# EAGLE library part ELDI-BF (library traf)
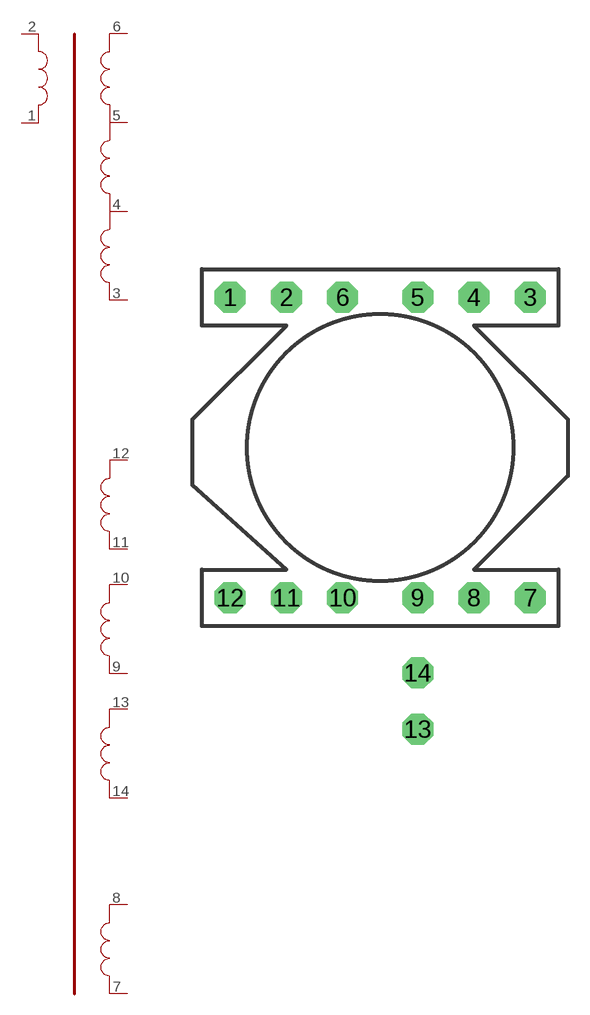
[diagram p0: symbol with the pads of ELDI-BF; footprint ELDI-BF]

Designator prefix TR

## ELDI-BF  [ELDI-BF]
1  P$1
2  P$2
3  P$6
4  P$5
5  P$4
6  P$3
7  P$12
8  P$11
9  P$10
10  P$9
11  P$8
12  P$7
13  P$13
14  P$14

## Footprint ELDI-BF (pad centres in mm)
drill 1.4 octagon: 1 -10.16,10.16; 2 -6.35,10.16; 3 10.16,10.16; 4 6.35,10.16; 5 2.54,10.16; 6 -2.54,10.16; 7 10.16,-10.16; 8 6.35,-10.16; 9 2.54,-10.16; 10 -2.54,-10.16; 11 -6.35,-10.16; 12 -10.16,-10.16; 13 2.54,-19.05; 14 2.54,-15.24